# EAGLE library part PIN2PIN-SOIC8 (library bb_op)
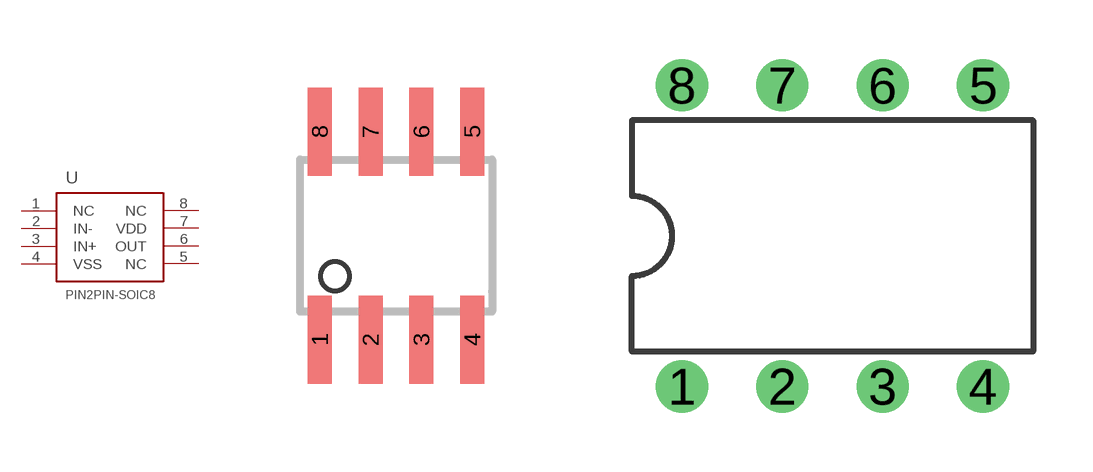
[diagram p1: symbol with the pads of SO08; footprints SO08, DIL08]

Designator prefix U

## PIN2PIN-SOIC8  [SO08]
1  NC  nc
2  IN-  in
3  IN+  in
4  VSS  pwr
5  NC  nc
6  OUT  out
7  VDD  pwr
8  NC  nc

## PIN2PIN-SOIC8D  [DIL08]
Pads as for SO08

## Footprint SO08 (pad centres in mm)
Small Outline Package 8 NS Package M08A
smd 0.6 x 2.2: 1 -1.905,-2.6; 2 -0.635,-2.6; 3 0.635,-2.6; 4 1.905,-2.6; 5 1.905,2.6; 6 0.635,2.6; 7 -0.635,2.6; 8 -1.905,2.6

## Footprint DIL08 (pad centres in mm)
Dual In Line Package
drill 0.813 pad 1.27: 1 -3.81,-3.81; 2 -1.27,-3.81; 3 1.27,-3.81; 4 3.81,-3.81; 5 3.81,3.81; 6 1.27,3.81; 7 -1.27,3.81; 8 -3.81,3.81